# Altium schematic symbol library IR21 Family.SchLib: 2 symbols
Pins are listed as number, name and electrical type; pins without a type are passive.

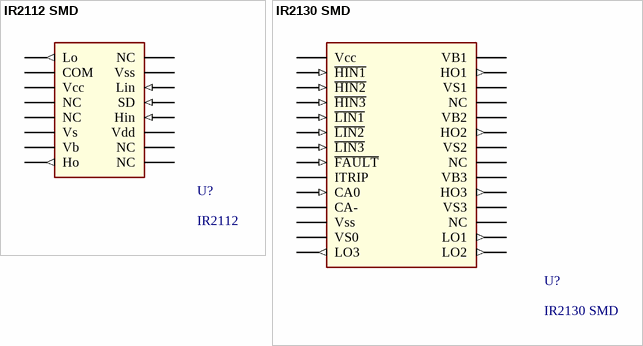
[diagram p0: symbols IR2112 SMD to IR2130 SMD]

## IR2112 SMD
designator U?, comment IR2112
Half-Bridge Gate Driver IC Non-Inverting  600V/200mA 16-SOIC; Manufacturer 1: Infineon Technologies; Manufacturer 1 PN: IR2112SPBF; ComponentLink1Description: Datasheet; ComponentLink1URL: https://www.infineon.com/dgdl/ir2112.pdf?fileId=5546d462533600a4015355c81cb71685; Digikey PN: IR2112SPBF-ND; Mouser PN: 942-IR2112SPBF
footprint IR2112 SMD (Half-Bridge Gate Driver IC Non-Inverting  600V/200mA 16-SOIC)
pins: 1 Lo (out), 2 COM (power), 3 Vcc (power), 4 NC (power), 5 NC (power), 6 Vs (power), 7 Vb (power), 8 Ho (out), 9 NC (power), 10 NC (power), 11 Vdd (power), 12 Hin (in), 13 SD (in), 14 Lin (in), 15 Vss (power), 16 NC (power)

## IR2130 SMD
designator U?
3-Phase Half-Bridge Gate Driver IC Inverting 28-SOIC 600V/200mA; Manufacturer 1: Infineon Technologies; Manufacturer 1 PN: IR2130STRPBF; ComponentLink1Description: Datasheet; ComponentLink1URL: https://www.infineon.com/dgdl/ir2130.pdf?fileId=5546d462533600a4015355c8757d169a; Digikey PN: IR2130STRPBFCT-ND; Mouser PN: 942-IR2130STRPBF
footprint IR2130 SMD (3-Phase Half-Bridge Gate Driver IC Inverting 28-SOIC 600V/200mA)
pins: 1 Vcc (power), 2 ~{HIN1} (in), 3 ~{HIN2} (in), 4 ~{HIN3} (in), 5 ~{LIN1} (in), 6 ~{LIN2} (in), 7 ~{LIN3} (in), 8 ~{FAULT} (in), 9 ITRIP (power), 10 CA0 (in), 11 CA- (power), 12 Vss (power), 13 VS0 (power), 14 LO3 (out), 15 LO2 (out), 16 LO1 (out), 17 NC (power), 18 VS3 (power), 19 HO3 (out), 20 VB3 (power), 21 NC (power), 22 VS2 (power), 23 HO2 (out), 24 VB2 (power), 25 NC (power), 26 VS1 (power), 27 HO1 (out), 28 VB1 (power)